# Altium footprint library 数字电路时钟.PcbLib: 21 footprints (part 2 of 2)
Each footprint in its own frame and in the unit in brackets; x right, y up, seen from the top. Pads: shape width x height; smd on the part's side, far side on the other; paste and mask are expansions set on the pad; w line width, h text height; cw(c..) or ccw(c..) is an arc to the next point about the centre after c.
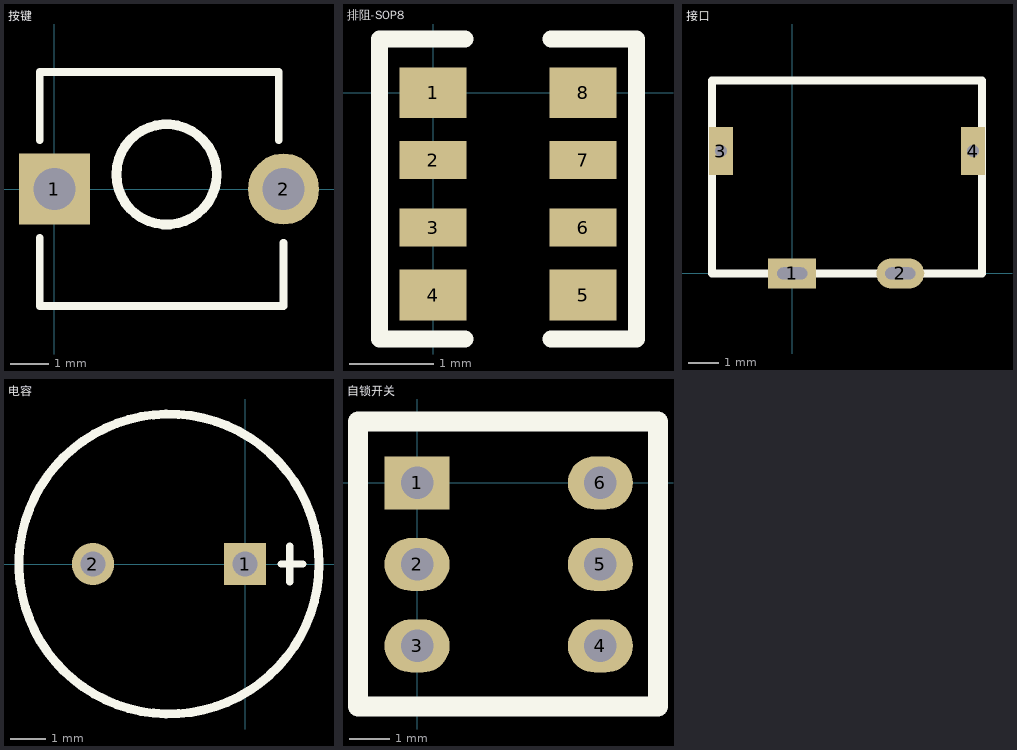
[diagram p1: the footprints below, top view; thin cyan lines are the x and y axes]

## 按键 [mm] "Switch; 2 Leads"
pads (2):
  rect 1.85x1.85 hole 1.1: 1(0,0)
  round 1.85 hole 1.1: 2(5.969,0)
Top Overlay:
  circle w0.254: c2.921,0.381 r1.308
  lines w0.2: -0.381,-1.27 -0.381,-3.048 5.969,-3.048 5.969,-2.635 5.969,-1.81 5.969,-1.397 ; -0.381,1.27 -0.381,3.048 5.842,3.048 5.842,1.27

## 排阻-SOP8 [mm]
pads (8):
  rect 0.8x0.6 smd mask+0.05: 1(0,0) 4(0,-2.4) 5(1.778,-2.4) 8(1.778,0)
  rect 0.8x0.45 smd mask+0.05: 2(0,-0.8) 3(0,-1.6) 6(1.778,-1.6) 7(1.778,-0.8)
Top Overlay:
  lines w0.2: 0.381,-2.921 -0.635,-2.921 -0.635,0.635 0.381,0.635 ; 1.397,-2.921 2.413,-2.921 2.413,0.635 1.397,0.635

## 接口 [mm]
pads (4):
  rect 1.6x1 hole 0.4 slot 1 at 0 deg unplated: 1(0,0)
  oval 1.6x1 hole 0.4 slot 1 at 0 deg: 2(3.6,0)
  rect 0.8x1.6 hole 0.4 square: 3(-2.375,4.08) 4(6.025,4.08)
Top Overlay:
  lines w0.254: 6.275,6.43 -2.675,6.43 -2.675,0 6.325,0 6.325,6.43

## 电容 [mm]
pads (2):
  rect 1.2x1.2 hole 0.7 square: 1(0,0)
  round 1.2 hole 0.7: 2(-4.318,0)
Top Overlay:
  circle w0.254: c-2.159,0 r4.26
  lines w0.2: 1.016,0 1.651,0 1.27,0 ; 1.27,-0.508 1.27,0.508

## 自锁开关 [mm]
pads (6):
  rect 1.6x1.3 hole 0.8: 1(0,0)
  oval 1.6x1.3 hole 0.8: 2(0,-2) 3(0,-4) 4(4.5,-4) 5(4.5,-2) 6(4.5,0)
Top Overlay:
  lines w0.5: -1.45,-5.491 5.915,-5.491 5.915,1.508 -1.45,1.508 -1.45,-5.491